# EAGLE library part TFBS4711 (library vishay)
IRDA TRANSCIEVER MODULE
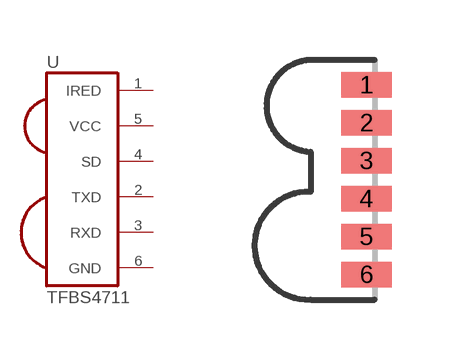
[diagram p2: symbol with the pads of TFBS4711; footprint TFBS4711]

Designator prefix U

## TFBS4711  [TFBS4711]
1  IRED  pwr
2  TXD  in
3  RXD  out
4  SD  in
5  VCC  pwr
6  GND  pwr

## Footprint TFBS4711 (pad centres in mm)
smd 1.27 x 0.64: 1 0,2.375; 2 0,1.425; 3 0,0.475; 4 0,-0.475; 5 0,-1.425; 6 0,-2.375